# Altium footprint library 其他类型封装库.PcbLib: 22 footprints (part 2 of 2)
Each footprint in its own frame and in the unit in brackets; x right, y up, seen from the top. Pads: shape width x height; smd on the part's side, far side on the other; paste and mask are expansions set on the pad; w line width, h text height; cw(c..) or ccw(c..) is an arc to the next point about the centre after c.
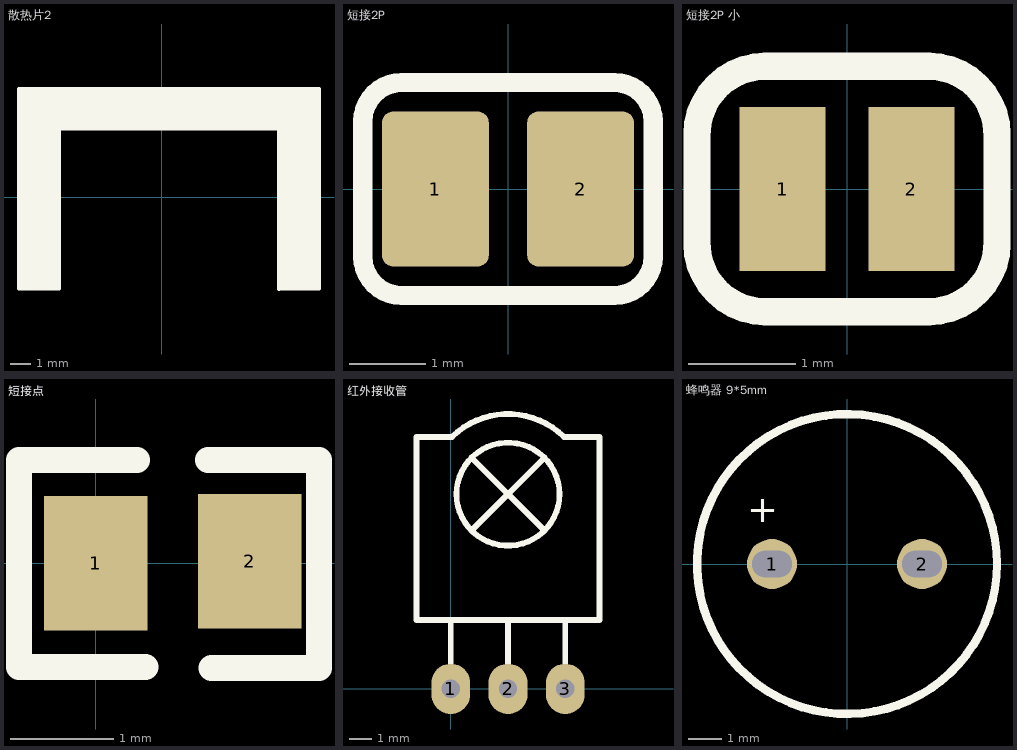
[diagram p1: the footprints below, top view; thin cyan lines are the x and y axes]

## 散热片2 [mm]
Top Overlay:
  rectangle: 5.86,-4.56 7.85,3.78
  rectangle: -5.33,3.43 7.85,5.39
  rectangle: -7.13,-4.56 -5.14,5.39
  lines w0.2: 5.88,-4.56 7.85,-4.56 7.85,5.39 -7.13,5.39 -7.13,-4.56 -5.14,-4.56 -5.14,3.42 5.85,3.42 ; 5.85,3.42 5.85,-4.59 5.85,3.42

## 短接2P [mil]
pads (2):
  rrect20% 55.12x80 smd: 1(-37.5,0) 2(37.5,0)
Top Overlay:
  lines w10: -75,-35 ccw(c-55,-35) -55,-55 0,-55 55,-55 ccw(c55,-35) 75,-35 75,0 75,35 ccw(c55,35) 55,55 0,55 -55,55 ccw(c-55,35) -75,35 -75,0 -75,-35

## 短接2P 小 [mm]
pads (2):
  rect 0.8x1.524 smd: 1(-0.6,0) 2(0.6,0)
Top Overlay:
  lines w0.254: -1.397,-0.508 ccw(c-0.762,-0.508) -0.762,-1.143 0,-1.143 0.762,-1.143 ccw(c0.762,-0.508) 1.397,-0.508 1.397,0.508 ccw(c0.762,0.508) 0.762,1.143 0,1.143 -0.762,1.143 ccw(c-0.762,0.508) -1.397,0.508 -1.397,-0.508
Top Solder:
  rectangle: -0.102,-0.864 0.102,0.864

## 短接点 [mm]
pads (2):
  rect 1x1.3 smd: 1(0,0) 2(1.49,0.02)
Top Overlay:
  lines w0.254: 0.4,1 -0.74,1 -0.74,-1 0.48,-1 ; 1.09,1 2.16,1 2.16,-1.01 1.12,-1.01

## 红外接收管 [mm]
pads (3):
  oval 1.7x2.2 hole 0.8: 1(0,0) 2(2.5,0) 3(5,0)
Top Overlay:
  circle w0.254: c2.5,8.5 r2.25
  lines w0.254: 0,1.1 0,3 ; 0.9,6.9 4.1,10.1 ; 0.9,10.1 4.1,6.9 ; 2.5,1.1 2.5,3 ; 4.947,11.002 ccw(c2.5,8.5) 0.053,11.002 -1.501,11.001 -1.5,3 6.5,3 6.5,11 4.948,11.002 ; 5,1.1 5,3

## 蜂鸣器 9*5mm [mm]
height 5
pads (2):
  round 1.5 / inner round 1.524 / far side round 1.524 hole 0.8 slot 1.2 at 0 deg: 1(-2.25,0) 2(2.25,0)
Top Overlay:
  circle w0.254: c0,0 r4.5
  text "+" at -3,1.25 h0.81
3D body: height 5.6, standoff -3.9, extent -5,-5 5,5